# EAGLE library part AD8232 (library OpenHealth)
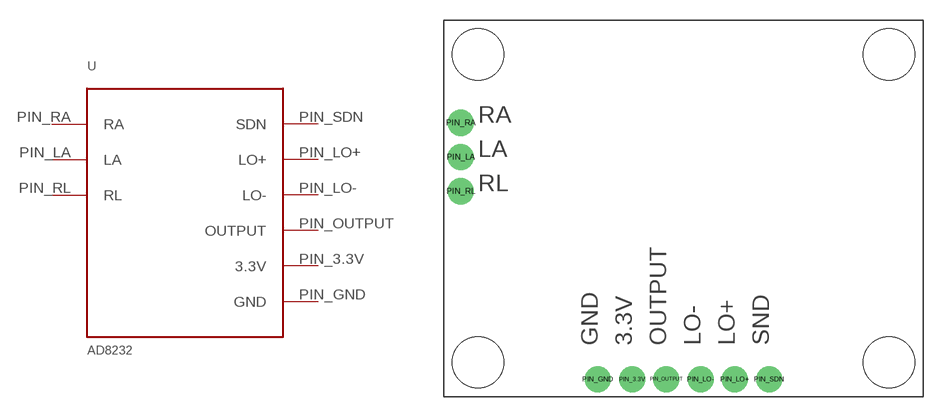
[diagram p1: symbol with the pads of AD8232; footprint AD8232]

Designator prefix -

## AD8232  [AD8232]
PIN_3.3V  3.3V
PIN_GND  GND
PIN_LA  LA
PIN_LO+  LO+
PIN_LO-  LO-
PIN_OUTPUT  OUTPUT
PIN_RA  RA
PIN_RL  RL
PIN_SDN  SDN

## Footprint AD8232 (pad centres in mm)
drill 0.8 pad 1.93: PIN_3.3V 13.97,1.27; PIN_GND 11.43,1.27; PIN_LA 1.27,17.78; PIN_LO+ 21.59,1.27; PIN_LO- 19.05,1.27; PIN_OUTPUT 16.51,1.27; PIN_RA 1.27,20.32; PIN_RL 1.27,15.24; PIN_SDN 24.13,1.27
hole 3.81 at 33.02,25.4
hole 3.81 at 2.54,25.4
hole 3.81 at 2.54,2.54
hole 3.81 at 33.02,2.54